# EAGLE library part TFTLCDTFTLCD-DEV (library 14pinheader)
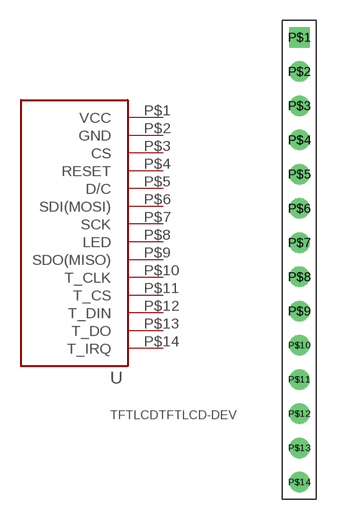
[diagram p0: symbol with the pads of TFTLCDTFTLCD-DEV; footprint TFTLCDTFTLCD-DEV]

Designator prefix -

## TFTLCDTFTLCD-DEV  [TFTLCDTFTLCD-DEV]
P$1  VCC  pas
P$2  GND  pas
P$3  CS  pas
P$4  RESET  pas
P$5  D/C  pas
P$6  SDI(MOSI)  pas
P$7  SCK  pas
P$8  LED  pas
P$9  SDO(MISO)  pas
P$10  T_CLK  pas
P$11  T_CS  pas
P$12  T_DIN  pas
P$13  T_DO  pas
P$14  T_IRQ  pas

## Footprint TFTLCDTFTLCD-DEV (pad centres in mm)
drill 1.02 square: P$1 -12.7,20.32
drill 1.02: P$2 -12.7,17.78; P$3 -12.7,15.24; P$4 -12.7,12.7; P$5 -12.7,10.16; P$6 -12.7,7.62; P$7 -12.7,5.08; P$8 -12.7,2.54; P$9 -12.7,0; P$10 -12.7,-2.54; P$11 -12.7,-5.08; P$12 -12.7,-7.62; P$13 -12.7,-10.16; P$14 -12.7,-12.7